# Altium footprint library PcbLib2.PcbLib: 45 footprints (part 2 of 3)
Each footprint in its own frame and in the unit in brackets; x right, y up, seen from the top. Pads: shape width x height; smd on the part's side, far side on the other; paste and mask are expansions set on the pad; w line width, h text height; cw(c..) or ccw(c..) is an arc to the next point about the centre after c.
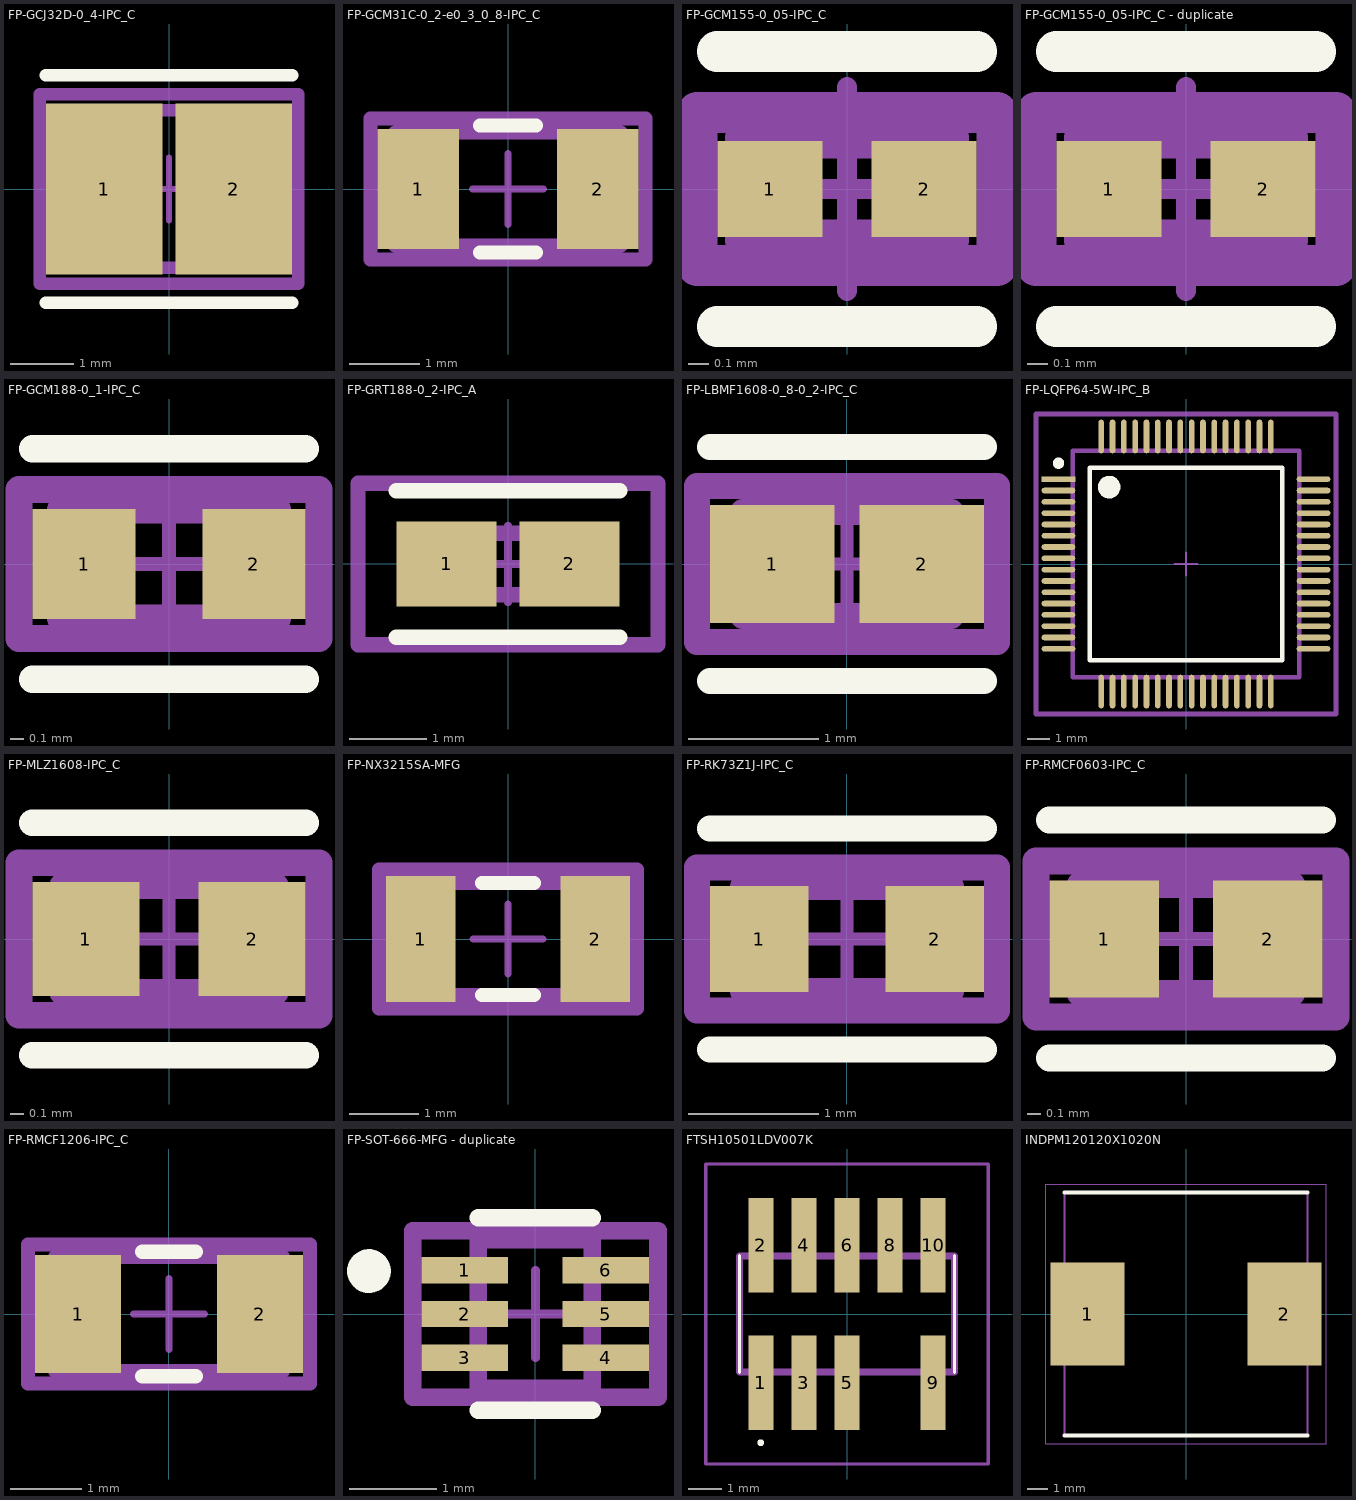
[diagram p1: the footprints below, top view; thin cyan lines are the x and y axes]

## FP-GCJ32D-0_4-IPC_C [mm]
pads (2):
  rect 1.852x2.704 smd paste+0 mask+0: 1(-1.025,0) 2(1.025,0)
Top Overlay:
  lines w0.2: -1.952,-1.8 1.952,-1.8 ; -1.952,1.8 1.952,1.8
Top Assembly:
  lines w0.2: -2.052,-1.5 2.052,-1.5 2.052,1.5 -2.052,1.5 -2.052,-1.5
  text ".Designator" at 0,0.188 h1
Top 3D Body:
  lines w0.2: -1.6,-1.25 1.6,-1.25 1.6,1.25 -1.6,1.25 -1.6,-1.25
Top Courtyard:
  lines w0.2: -2.052,-1.5 2.052,-1.5 2.052,1.5 -2.052,1.5 -2.052,-1.5
Top Component Center:
  lines w0.1: -0.5,0 0.5,0 ; 0,-0.5 0,0.5
3D body "Cap_Murata_GCJ32DL8EL225KA07L_eec.STEP": height 0.25, standoff 0, extent -2.052,-1.5 2.052,1.5

## FP-GCM31C-0_2-e0_3_0_8-IPC_C [mm]
pads (2):
  rect 1.155x1.706 smd paste+0 mask+0: 1(-1.276,0) 2(1.276,0)
Top Overlay:
  lines w0.2: -0.398,-0.9 0.398,-0.9 ; -0.398,0.9 0.398,0.9
Top Assembly:
  lines w0.2: -1.953,-1 -1.953,1 1.953,1 1.953,-1 -1.953,-1
  text ".Designator" at 0,0.188 h1
Top 3D Body:
  lines w0.2: -1.6,-0.8 -1.6,0.8 1.6,0.8 1.6,-0.8 -1.6,-0.8
Top Courtyard:
  lines w0.2: -1.953,-1 -1.953,1 1.953,1 1.953,-1 -1.953,-1
Top Component Center:
  lines w0.1: -0.5,0 0.5,0 ; 0,-0.5 0,0.5
3D body "Cap_Murata_GCM31C5C1H104JA16L_eec.STEP": height 0.25, standoff 0, extent -1.953,-1 1.953,1

## FP-GCM155-0_05-IPC_C [mm]
pads (2):
  rect 0.515x0.472 smd paste+0 mask+0: 1(-0.379,0) 2(0.379,0)
Top Overlay:
  lines w0.2: -0.636,-0.675 0.636,-0.675 ; -0.636,0.675 0.636,0.675
Top Assembly:
  lines w0.2: -0.736,-0.375 -0.736,0.375 0.736,0.375 0.736,-0.375 -0.736,-0.375
  text ".Designator" at 0,0.188 h1
Top 3D Body:
  lines w0.2: -0.5,-0.25 -0.5,0.25 0.5,0.25 0.5,-0.25 -0.5,-0.25
Top Courtyard:
  lines w0.2: -0.736,-0.375 -0.736,0.375 0.736,0.375 0.736,-0.375 -0.736,-0.375
Top Component Center:
  lines w0.1: -0.5,0 0.5,0 ; 0,-0.5 0,0.5
3D body "Cap_Murata_GCM155R71H271KA37D_eec.STEP": height 0.25, standoff 0, extent -0.736,-0.375 0.736,0.375

## FP-GCM155-0_05-IPC_C - duplicate [mm]
pads (2):
  rect 0.515x0.472 smd paste+0 mask+0: 1(-0.379,0) 2(0.379,0)
Top Overlay:
  lines w0.2: -0.636,-0.675 0.636,-0.675 ; -0.636,0.675 0.636,0.675
Top Assembly:
  lines w0.2: -0.736,-0.375 -0.736,0.375 0.736,0.375 0.736,-0.375 -0.736,-0.375
  text ".Designator" at 0,0.188 h1
Top 3D Body:
  lines w0.2: -0.5,-0.25 -0.5,0.25 0.5,0.25 0.5,-0.25 -0.5,-0.25
Top Courtyard:
  lines w0.2: -0.736,-0.375 -0.736,0.375 0.736,0.375 0.736,-0.375 -0.736,-0.375
Top Component Center:
  lines w0.1: -0.5,0 0.5,0 ; 0,-0.5 0,0.5
3D body "Cap_Murata_GCM155R71H271KA37D_eec.STEP": height 0.25, standoff 0, extent -0.736,-0.375 0.736,0.375

## FP-GCM188-0_1-IPC_C [mm]
pads (2):
  rect 0.759x0.812 smd paste+0 mask+0: 1(-0.627,0) 2(0.627,0)
Top Overlay:
  lines w0.2: -1.006,-0.85 1.006,-0.85 ; -1.006,0.85 1.006,0.85
Top Assembly:
  lines w0.2: -1.106,-0.55 1.106,-0.55 1.106,0.55 -1.106,0.55 -1.106,-0.55
  text ".Designator" at 0,0.188 h1
Top 3D Body:
  lines w0.2: -0.8,-0.4 0.8,-0.4 0.8,0.4 -0.8,0.4 -0.8,-0.4
Top Courtyard:
  lines w0.2: -1.106,-0.55 1.106,-0.55 1.106,0.55 -1.106,0.55 -1.106,-0.55
Top Component Center:
  lines w0.1: -0.5,0 0.5,0 ; 0,-0.5 0,0.5
3D body "Cap_Murata_GCM1885C2A5R3BA16J_eec.STEP": height 0.25, standoff 0, extent -1.106,-0.55 1.106,0.55

## FP-GRT188-0_2-IPC_A [mm]
pads (2):
  rect 1.305x1.106 smd paste+0 mask+0: 1(-0.801,0) 2(0.801,0)
Top Overlay:
  lines w0.2: -1.453,-0.953 1.453,-0.953 ; -1.453,0.953 1.453,0.953
Top Assembly:
  lines w0.2: -1.953,-1.053 1.953,-1.053 1.953,1.053 -1.953,1.053 -1.953,-1.053
  text ".Designator" at 0,0.188 h1
Top 3D Body:
  lines w0.2: -0.8,-0.4 0.8,-0.4 0.8,0.4 -0.8,0.4 -0.8,-0.4
Top Courtyard:
  lines w0.2: -1.953,-1.053 1.953,-1.053 1.953,1.053 -1.953,1.053 -1.953,-1.053
Top Component Center:
  lines w0.1: -0.5,0 0.5,0 ; 0,-0.5 0,0.5
3D body "Cap_Murata_GRT188R61H225KE13D_eec.STEP": height 0.25, standoff 0, extent -1.953,-1.053 1.953,1.053

## FP-LBMF1608-0_8-0_2-IPC_C [mm]
pads (2):
  rect 0.955x0.906 smd paste+0 mask+0: 1(-0.575,0) 2(0.575,0)
Top Overlay:
  lines w0.2: -1.053,-0.9 1.053,-0.9 ; -1.053,0.9 1.053,0.9
Top Assembly:
  lines w0.2: -1.153,-0.6 1.153,-0.6 1.153,0.6 -1.153,0.6 -1.153,-0.6
  text ".Designator" at 0,0.188 h1
Top 3D Body:
  lines w0.2: -0.8,-0.4 0.8,-0.4 0.8,0.4 -0.8,0.4 -0.8,-0.4
Top Courtyard:
  lines w0.2: -1.153,-0.6 1.153,-0.6 1.153,0.6 -1.153,0.6 -1.153,-0.6
Top Component Center:
  lines w0.1: -0.5,0 0.5,0 ; 0,-0.5 0,0.5
3D body "Ind_Taiyo_Yuden_LBMF1608T1R0M_eec.STEP": height 0.25, standoff 0, extent -1.153,-0.6 1.153,0.6

## FP-LQFP64-5W-IPC_B [mm]
pads (64):
  rect 1.488x0.252 smd paste+0 mask+0: 1(-5.641,3.75)
  rrect100% 1.488x0.252 smd paste+0 mask+0: 2(-5.641,3.25) 3(-5.641,2.75) 4(-5.641,2.25) 5(-5.641,1.75) 6(-5.641,1.25) 7(-5.641,0.75) 8(-5.641,0.25) 9(-5.641,-0.25) 10(-5.641,-0.75) 11(-5.641,-1.25) 12(-5.641,-1.75) 13(-5.641,-2.25) 14(-5.641,-2.75) 15(-5.641,-3.25) 16(-5.641,-3.75) 33(5.641,-3.75) 34(5.641,-3.25) 35(5.641,-2.75) 36(5.641,-2.25) 37(5.641,-1.75) 38(5.641,-1.25) 39(5.641,-0.75) 40(5.641,-0.25) 41(5.641,0.25) 42(5.641,0.75) 43(5.641,1.25) 44(5.641,1.75) 45(5.641,2.25) 46(5.641,2.75) 47(5.641,3.25) 48(5.641,3.75)
  rrect100% 0.252x1.488 smd paste+0 mask+0: 17(-3.75,-5.641) 18(-3.25,-5.641) 19(-2.75,-5.641) 20(-2.25,-5.641) 21(-1.75,-5.641) 22(-1.25,-5.641) 23(-0.75,-5.641) 24(-0.25,-5.641) 25(0.25,-5.641) 26(0.75,-5.641) 27(1.25,-5.641) 28(1.75,-5.641) 29(2.25,-5.641) 30(2.75,-5.641) 31(3.25,-5.641) 32(3.75,-5.641) 49(3.75,5.641) 50(3.25,5.641) 51(2.75,5.641) 52(2.25,5.641) 53(1.75,5.641) 54(1.25,5.641) 55(0.75,5.641) 56(0.25,5.641) 57(-0.25,5.641) 58(-0.75,5.641) 59(-1.25,5.641) 60(-1.75,5.641) 61(-2.25,5.641) 62(-2.75,5.641) 63(-3.25,5.641) 64(-3.75,5.641)
Top Overlay:
  circle w0.5: c-3.4,3.4 r0.25
  circle w0.25: c-5.641,4.46 r0.125
  lines w0.2: -4.25,-4.25 -4.25,4.25 4.25,4.25 4.25,-4.25 -4.25,-4.25
Top Assembly:
  lines w0.2: -6.635,-6.635 -6.635,6.635 6.635,6.635 6.635,-6.635 -6.635,-6.635
  text ".Designator" at 0,-0.001 h1
Top 3D Body:
  lines w0.2: -5,-5 -5,5 5,5 5,-5 -5,-5
Top Courtyard:
  lines w0.2: -6.635,-6.635 -6.635,6.635 6.635,6.635 6.635,-6.635 -6.635,-6.635
Top Component Center:
  lines w0.1: -0.5,0 0.5,0 ; 0,-0.5 0,0.5
3D body "IC_STMicroelectronics_STM32F401RET6_eec.STEP": height 0.25, standoff 0, extent -6.635,-6.635 6.635,6.635

## FP-MLZ1608-IPC_C [mm]
pads (2):
  rect 0.806x0.858 smd paste+0 mask+0: 1(-0.626,0) 2(0.626,0)
Top Overlay:
  lines w0.2: -1.029,-0.875 1.029,-0.875 ; -1.029,0.875 1.029,0.875
Top Assembly:
  lines w0.2: -1.129,-0.575 -1.129,0.575 1.129,0.575 1.129,-0.575 -1.129,-0.575
  text ".Designator" at 0,0.188 h1
Top 3D Body:
  lines w0.2: -0.8,-0.4 -0.8,0.4 0.8,0.4 0.8,-0.4 -0.8,-0.4
Top Courtyard:
  lines w0.2: -1.129,-0.575 -1.129,0.575 1.129,0.575 1.129,-0.575 -1.129,-0.575
Top Component Center:
  lines w0.1: -0.5,0 0.5,0 ; 0,-0.5 0,0.5
3D body "Ind_TDK_MLZ1608A1R0WT000_eec.STEP": height 0.25, standoff 0, extent -1.129,-0.575 1.129,0.575

## FP-NX3215SA-MFG [mm]
pads (2):
  rect 1x1.8 smd paste+0 mask+0: 1(-1.25,0) 2(1.25,0)
Top Overlay:
  lines w0.2: -0.375,-0.8 0.375,-0.8 ; -0.375,0.8 0.375,0.8
Top Assembly:
  lines w0.2: -1.85,-1 -1.85,1 1.85,1 1.85,-1 -1.85,-1
  text ".Designator" at 0,0.188 h1
Top 3D Body:
  lines w0.2: -1.65,-0.8 -1.65,0.8 1.65,0.8 1.65,-0.8 -1.65,-0.8
Top Courtyard:
  lines w0.2: -1.85,-1 -1.85,1 1.85,1 1.85,-1 -1.85,-1
Top Component Center:
  lines w0.1: -0.5,0 0.5,0 ; 0,-0.5 0,0.5
3D body "Crys_NDK_NX3215SA-32_768K-STD-MUS-2_eec.STEP": height 0.25, standoff 0, extent -1.85,-1 1.85,1

## FP-RK73Z1J-IPC_C [mm]
pads (2):
  rect 0.756x0.812 smd paste+0 mask+0: 1(-0.675,0) 2(0.675,0)
Top Overlay:
  lines w0.2: -1.053,-0.85 1.053,-0.85 ; -1.053,0.85 1.053,0.85
Top Assembly:
  lines w0.2: -1.153,-0.55 -1.153,0.55 1.153,0.55 1.153,-0.55 -1.153,-0.55
  text ".Designator" at 0,0.188 h1
Top 3D Body:
  lines w0.2: -0.8,-0.4 -0.8,0.4 0.8,0.4 0.8,-0.4 -0.8,-0.4
Top Courtyard:
  lines w0.2: -1.153,-0.55 -1.153,0.55 1.153,0.55 1.153,-0.55 -1.153,-0.55
Top Component Center:
  lines w0.1: -0.5,0 0.5,0 ; 0,-0.5 0,0.5
3D body "Res_KOA_Speer_RK73Z1JTTD_eec.STEP": height 0.25, standoff 0, extent -1.153,-0.55 1.153,0.55

## FP-RMCF0603-IPC_C [mm]
pads (2):
  rect 0.806x0.858 smd paste+0 mask+0: 1(-0.601,0) 2(0.601,0)
Top Overlay:
  lines w0.2: -1.004,-0.875 1.004,-0.875 ; -1.004,0.875 1.004,0.875
Top Assembly:
  lines w0.2: -1.104,-0.575 -1.104,0.575 1.104,0.575 1.104,-0.575 -1.104,-0.575
  text ".Designator" at 0,0.188 h1
Top 3D Body:
  lines w0.2: -0.775,-0.4 -0.775,0.4 0.775,0.4 0.775,-0.4 -0.775,-0.4
Top Courtyard:
  lines w0.2: -1.104,-0.575 -1.104,0.575 1.104,0.575 1.104,-0.575 -1.104,-0.575
Top Component Center:
  lines w0.1: -0.5,0 0.5,0 ; 0,-0.5 0,0.5
3D body "Res_Stackpole_Electronics_RMCF0603JT1M80_eec.STEP": height 0.25, standoff 0, extent -1.104,-0.575 1.104,0.575

## FP-RMCF1206-IPC_C [mm]
pads (2):
  rect 1.204x1.658 smd paste+0 mask+0: 1(-1.276,0) 2(1.276,0)
Top Overlay:
  lines w0.2: -0.374,-0.875 0.374,-0.875 ; -0.374,0.875 0.374,0.875
Top Assembly:
  lines w0.2: -1.977,-0.975 1.977,-0.975 1.977,0.975 -1.977,0.975 -1.977,-0.975
  text ".Designator" at 0,0.188 h1
Top 3D Body:
  lines w0.2: -1.6,-0.8 1.6,-0.8 1.6,0.8 -1.6,0.8 -1.6,-0.8
Top Courtyard:
  lines w0.2: -1.977,-0.975 1.977,-0.975 1.977,0.975 -1.977,0.975 -1.977,-0.975
Top Component Center:
  lines w0.1: -0.5,0 0.5,0 ; 0,-0.5 0,0.5
3D body "Res_Stackpole_Electronics_RMCF1206JT1K00_eec.STEP": height 0.25, standoff 0, extent -1.977,-0.975 1.977,0.975

## FP-SOT-666-MFG - duplicate [mm]
pads (6):
  rect 0.99x0.3 smd paste+0 mask+0: 1(-0.805,0.5) 2(-0.805,0) 3(-0.805,-0.5) 4(0.805,-0.5) 5(0.805,0) 6(0.805,0.5)
Top Overlay:
  circle w0.25: c-1.9,0.49 r0.125
  lines w0.2: -0.65,-1.1 0.65,-1.1 ; -0.65,1.1 0.65,1.1
Top Assembly:
  lines w0.2: -1.4,-0.95 -1.4,0.95 1.4,0.95 1.4,-0.95 -1.4,-0.95
  text ".Designator" at 0,0.188 h1
Top 3D Body:
  lines w0.2: -0.65,-0.85 -0.65,0.85 0.65,0.85 0.65,-0.85 -0.65,-0.85
Top Courtyard:
  lines w0.2: -1.4,-0.95 -1.4,0.95 1.4,0.95 1.4,-0.95 -1.4,-0.95
Top Component Center:
  lines w0.1: -0.5,0 0.5,0 ; 0,-0.5 0,0.5
3D body "Diode_STMicroelectronics_DSILC6-4P6_eec.STEP": height 0.25, standoff 0, extent -1.4,-0.95 1.4,0.95

## FTSH10501LDV007K [mm]
pads (9):
  rect 0.74x2.79 smd: 1(-2.54,-2.035) 2(-2.54,2.035) 3(-1.27,-2.035) 4(-1.27,2.035) 5(0,-2.035) 6(0,2.035) 8(1.27,2.035) 9(2.54,-2.035) 10(2.54,2.035)
Top Overlay:
  lines w0.1: -3.175,-1.715 -3.175,1.715 ; 3.175,-1.715 3.175,1.715 ; -2.6,-3.8 cw(c-2.55,-3.8) -2.5,-3.8 cw(c-2.55,-3.8) -2.6,-3.8
Top 3D Body:
  lines w0.2: -3.175,-1.715 -3.175,1.715 3.175,1.715 3.175,-1.715 -3.175,-1.715
Top Courtyard:
  lines w0.1: -4.175,-4.43 -4.175,4.43 4.175,4.43 4.175,-4.43 -4.175,-4.43
3D body "FTSH-105-01-L-DV-007-K.stp": height 5.71, standoff -0.41, extent -3.302,-2.794 3.048,3.048

## INDPM120120X1020N [mm]
pads (2):
  rect 3.65x5.1 smd: 1(-4.85,0) 2(4.85,0)
Top Overlay:
  lines w0.2: -6,-6 6,-6 ; -6,6 6,6
Top 3D Body:
  lines w0.1: -6,-6 -6,6 6,6 6,-6 -6,-6
Top Courtyard:
  lines w0.05: -6.925,-6.4 -6.925,6.4 6.925,6.4 6.925,-6.4 -6.925,-6.4
3D body "MSS1210-683MED.stp": height 10.2, standoff 0, extent -6,-6 6,6